# Altium schematic symbol library IGBT,N Ch,650V,48A,SMD.Schlib: 1 symbol
Pins are listed as number, name and electrical type; pins without a type are passive.

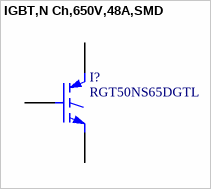
[diagram p0: symbol IGBT,N Ch,650V,48A,SMD]

## IGBT,N Ch,650V,48A,SMD
designator I?, comment RGT50NS65DGTL
IGBT Trench Field Stop Surface Mount LPDS
pins: 1 G, 2 C, 3 E